# Altium schematic symbol library SCH - MCU - ATSAM - MICROCHIP ATSAML10D14A-YU SSOP24.SchLib: 1 symbol
Pins are listed as number, name and electrical type; pins without a type are passive.

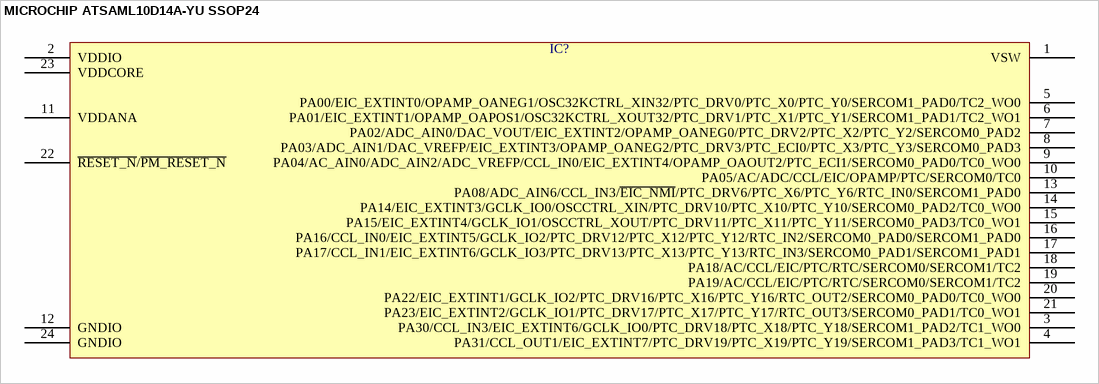
[diagram p0: symbol MICROCHIP ATSAML10D14A-YU SSOP24]

## MICROCHIP ATSAML10D14A-YU SSOP24
designator IC?  (value not drawn)
pins: 1 VSW, 2 VDDIO, 3 PA30/CCL_IN3/EIC_EXTINT6/GCLK_IO0/PTC_DRV18/PTC_X18/PTC_Y18/SERCOM1_PAD2/TC1_WO0, 4 PA31/CCL_OUT1/EIC_EXTINT7/PTC_DRV19/PTC_X19/PTC_Y19/SERCOM1_PAD3/TC1_WO1, 5 PA00/EIC_EXTINT0/OPAMP_OANEG1/OSC32KCTRL_XIN32/PTC_DRV0/PTC_X0/PTC_Y0/SERCOM1_PAD0/TC2_WO0, 6 PA01/EIC_EXTINT1/OPAMP_OAPOS1/OSC32KCTRL_XOUT32/PTC_DRV1/PTC_X1/PTC_Y1/SERCOM1_PAD1/TC2_WO1, 7 PA02/ADC_AIN0/DAC_VOUT/EIC_EXTINT2/OPAMP_OANEG0/PTC_DRV2/PTC_X2/PTC_Y2/SERCOM0_PAD2, 8 PA03/ADC_AIN1/DAC_VREFP/EIC_EXTINT3/OPAMP_OANEG2/PTC_DRV3/PTC_ECI0/PTC_X3/PTC_Y3/SERCOM0_PAD3, 9 PA04/AC_AIN0/ADC_AIN2/ADC_VREFP/CCL_IN0/EIC_EXTINT4/OPAMP_OAOUT2/PTC_ECI1/SERCOM0_PAD0/TC0_WO0, 10 PA05/AC/ADC/CCL/EIC/OPAMP/PTC/SERCOM0/TC0, 11 VDDANA, 12 GNDIO, 13 PA08/ADC_AIN6/CCL_IN3/~{EIC_NMI}/PTC_DRV6/PTC_X6/PTC_Y6/RTC_IN0/SERCOM1_PAD0, 14 PA14/EIC_EXTINT3/GCLK_IO0/OSCCTRL_XIN/PTC_DRV10/PTC_X10/PTC_Y10/SERCOM0_PAD2/TC0_WO0, 15 PA15/EIC_EXTINT4/GCLK_IO1/OSCCTRL_XOUT/PTC_DRV11/PTC_X11/PTC_Y11/SERCOM0_PAD3/TC0_WO1, 16 PA16/CCL_IN0/EIC_EXTINT5/GCLK_IO2/PTC_DRV12/PTC_X12/PTC_Y12/RTC_IN2/SERCOM0_PAD0/SERCOM1_PAD0, 17 PA17/CCL_IN1/EIC_EXTINT6/GCLK_IO3/PTC_DRV13/PTC_X13/PTC_Y13/RTC_IN3/SERCOM0_PAD1/SERCOM1_PAD1, 18 PA18/AC/CCL/EIC/PTC/RTC/SERCOM0/SERCOM1/TC2, 19 PA19/AC/CCL/EIC/PTC/RTC/SERCOM0/SERCOM1/TC2, 20 PA22/EIC_EXTINT1/GCLK_IO2/PTC_DRV16/PTC_X16/PTC_Y16/RTC_OUT2/SERCOM0_PAD0/TC0_WO0, 21 PA23/EIC_EXTINT2/GCLK_IO1/PTC_DRV17/PTC_X17/PTC_Y17/RTC_OUT3/SERCOM0_PAD1/TC0_WO1, 22 ~{RESET_N}/~{PM_RESET_N}, 23 VDDCORE, 24 GNDIO